# Altium footprint library Dipl_Library.PcbLib: 11 footprints
Each footprint in its own frame and in the unit in brackets; x right, y up, seen from the top. Pads: shape width x height; smd on the part's side, far side on the other; paste and mask are expansions set on the pad; w line width, h text height; cw(c..) or ccw(c..) is an arc to the next point about the centre after c.
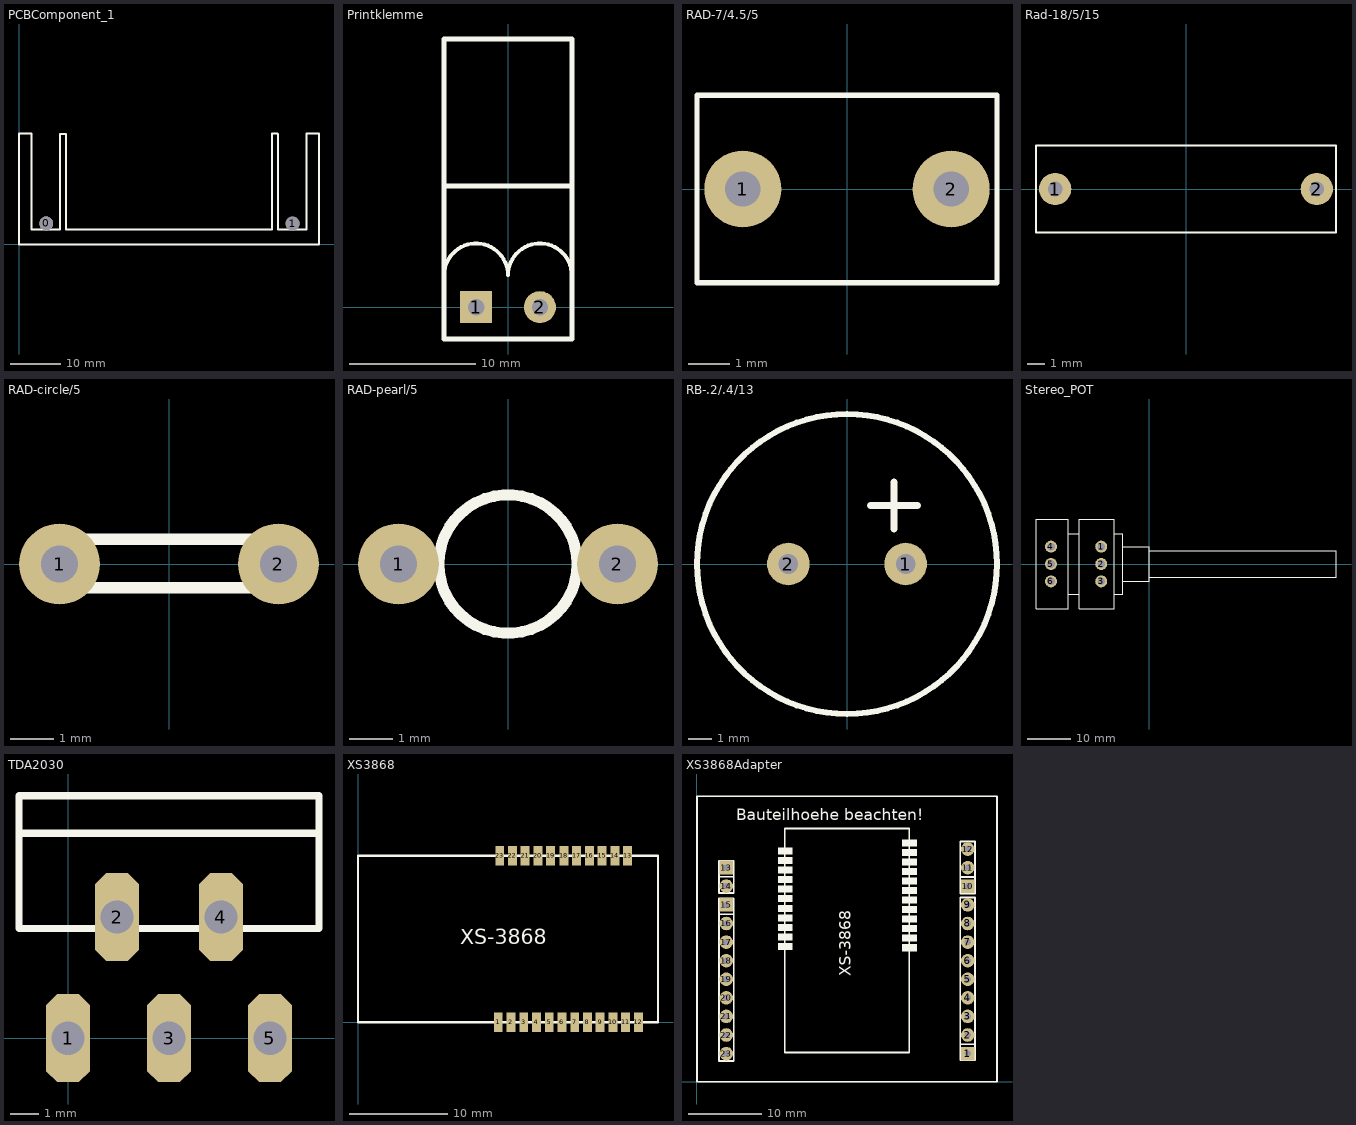
[diagram p0: the footprints below, top view; thin cyan lines are the x and y axes]

## PCBComponent_1 [mm]
pads (2):
  round 2.75 hole 2.75: 0(5.375,4.125) 1(54.05,4.075)
Top Overlay:
  lines w0.4: 51.1,21.85 49.95,21.85 49.95,2.9 9.3,2.9 9.3,21.8 8.1,21.8 8.1,2.9 2.5,2.9 2.5,21.85 0,21.85 0,0 59.25,0 59.25,21.85 56.75,21.85 56.75,2.9 51.15,2.9 51.15,21.8

## Printklemme [mm] "Male+Female(Male Onboard"
pads (2):
  rect 2.54x2.54 hole 1.3: 1(-2.54,0)
  round 2.54 hole 1.3: 2(2.54,0)
Top Overlay:
  lines w0.305: -5.085,2.531 cw(c-2.545,2.531) -0.005,2.531 cw(c2.535,2.531) 5.075,2.531
  lines w0.4: -5.08,9.652 5.08,9.652 ; -5.08,-2.54 -5.08,21.336 5.08,21.336 5.08,-2.54 -5.08,-2.54

## RAD-7/4.5/5 [mm] "0.33µF"
height 9.5
pads (2):
  round 1.85 hole 0.85: 1(-2.5,0) 2(2.5,0)
Top Overlay:
  lines w0.127: -3.6,-2.25 3.6,-2.25 3.6,2.25 -3.6,2.25 -3.6,-2.25

## Rad-18/5/15 [mm] "0,22µF/250V/radial"
height 12
pads (2):
  round 1.85 hole 0.85: 1(-7.5,0) 2(7.5,0)
Top Overlay:
  lines w0.127: -8.6,-2.5 -8.6,2.5 8.6,2.5 8.6,-2.5 -8.6,-2.5

## RAD-circle/5 [mm] "Keramik-KO Vertikal-Kreisförmig"
height 12
pads (2):
  round 1.85 hole 0.85: 1(-2.5,0) 2(2.5,0)
Top Overlay:
  lines w0.254: -2.5,-0.5 cw(c-2.5,0) -2.5,0.5 ; -2.5,0.564 2.5,0.564 ; -2.5,0.575 ccw(c-2.5,0.016) -2.5,-0.543 2.5,-0.543 ccw(c2.5,0.021) 2.5,0.585

## RAD-pearl/5 [mm] "Keramik-KO"
height 6
pads (2):
  round 1.85 hole 0.85: 1(-2.5,0) 2(2.5,0)
Top Overlay:
  circle w0.254: c0,0 r1.581

## RB-.2/.4/13 [mm] "d = 13mm"
pads (2):
  round 1.85 hole 0.85: 1(2.54,0) 2(-2.54,0)
Top Overlay:
  circle w0.254: c0,0 r6.5
  lines w0.305: 1.016,2.54 3.048,2.54 ; 2.032,1.524 2.032,3.556

## Stereo_POT [mm]
pads (6):
  round 2.75 hole 1.75: 1(-11,4) 2(-11,0) 3(-11,-4) 4(-22.55,4) 5(-22.55,0) 6(-22.55,-4)
Top Overlay:
  lines w0.254: -18.6,-7 -16,-7 ; -18.6,7 -16,7 ; -8,-7 -6,-7 -6,7 -8,7 ; -6,-4 0,-4 0,4 -6,4 ; 0,3 43,3 43,-3 0.011,-3 ; -26,-10.3 -26,10.3 -18.6,10.3 -18.6,-10.3 -26,-10.3 ; -16,-10.3 -16,10.3 -8,10.3 -8,-10.3 -16,-10.3

## TDA2030 [mm] "Hifi Audio Amplifier"
pads (5):
  oct 1.524x3.048 hole 1.15: 1(0,0) 2(1.7,4.2) 3(3.5,0) 4(5.3,4.2) 5(7,0)
Top Overlay:
  lines w0.254: -1.7,7.1 8.7,7.1 ; -1.7,3.8 -1.7,8.4 8.7,8.4 8.7,3.8 -1.7,3.8

## XS3868 [mm]
pads (23):
  rect 0.9x2 all layers, no hole: 1(14.3,0) 2(15.6,0) 3(16.9,0) 4(18.2,0) 5(19.5,0) 6(20.8,0) 7(22.1,0) 8(23.4,0) 9(24.7,0) 10(26,0) 11(27.3,0) 12(28.6,0) 13(27.5,17) 14(26.2,17) 15(24.9,17) 16(23.6,17) 17(22.3,17) 18(21,17) 19(19.65,17) 20(18.35,17) 21(17.05,17) 22(15.75,17) 23(14.45,17)
Top Overlay:
  lines w0.254: 0,0 30.6,0 30.6,17 0,17 0,0
  text "XS-3868" at 10.425,7.975 h1.52

## XS3868Adapter [mm]
pads (23):
  rect 1.85x1.85 hole 0.85: 1(37.05,3.815) 10(37.05,26.685) 13(4.05,29.245) 15(4.05,24.135)
  round 1.85 hole 0.85: 2(37.05,6.355) 3(37.05,8.895) 4(37.05,11.435) 5(37.05,13.975) 6(37.05,16.515) 7(37.05,19.055) 8(37.05,21.595) 9(37.05,24.135) 11(37.05,29.225) 12(37.05,31.765) 14(4.05,26.705) 16(4.05,21.595) 17(4.05,19.055) 18(4.05,16.515) 19(4.05,13.975) 20(4.05,11.435) 21(4.05,8.895) 22(4.05,6.355) 23(4.05,3.815)
Top Overlay:
  rectangle: 28.1,32.1 30.1,33.1
  rectangle: 28.1,30.8 30.1,31.8
  rectangle: 28.1,29.5 30.1,30.5
  rectangle: 28.1,28.2 30.1,29.2
  rectangle: 28.1,26.9 30.1,27.9
  rectangle: 28.1,25.6 30.1,26.6
  rectangle: 28.1,24.3 30.1,25.3
  rectangle: 28.1,23 30.1,24
  rectangle: 28.1,21.7 30.1,22.7
  rectangle: 28.1,20.4 30.1,21.4
  rectangle: 28.1,19.1 30.1,20.1
  rectangle: 28.1,17.8 30.1,18.8
  rectangle: 11.1,17.95 13.1,18.95
  rectangle: 11.1,19.25 13.1,20.25
  rectangle: 11.1,20.55 13.1,21.55
  rectangle: 11.1,21.85 13.1,22.85
  rectangle: 11.1,23.15 13.1,24.15
  rectangle: 11.1,24.5 13.1,25.5
  rectangle: 11.1,25.8 13.1,26.8
  rectangle: 11.1,27.1 13.1,28.1
  rectangle: 11.1,28.4 13.1,29.4
  rectangle: 11.1,29.7 13.1,30.7
  rectangle: 11.1,31 13.1,32
  lines w0.05: 20.091,34.508 20.117,34.534
  lines w0.254: 3.034,22.865 5.066,22.865 ; 3.05,27.975 5.066,27.975 ; 36.034,5.085 38.066,5.085 ; 36.034,27.955 38.066,27.955 ; 0.05,-0.025 41.05,-0.025 41.05,38.975 0.05,38.975 0.05,-0.025 ; 3.034,2.799 5.066,2.799 5.066,25.024 3.034,25.024 3.034,2.799 ; 3.034,25.775 3.034,30.175 5.066,30.175 5.066,25.775 3.034,25.775 ; 12.05,3.975 29.05,3.975 29.05,34.575 12.05,34.575 12.05,3.975 ; 36.034,2.926 38.066,2.926 38.066,25.151 36.034,25.151 36.034,2.926 ; 36.034,25.669 38.066,25.669 38.066,32.781 36.034,32.781 36.034,25.669
  text "XS-3868" at 21.075,14.4 h1.52
  text "Bauteilhoehe beachten!" at 5.4,35.7 h1.52